# EAGLE library part MKL02Z32VFG4 (library PatternAgents-NXP)
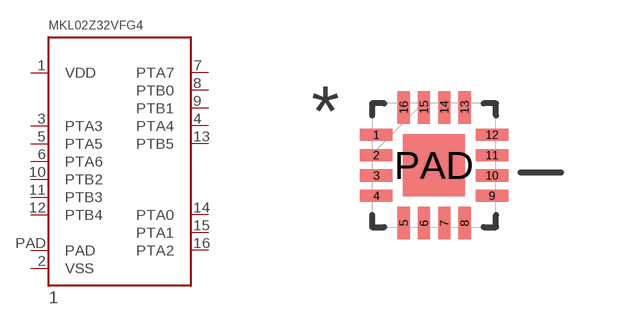
[diagram p12: symbol with the pads of QFN16_3X3; footprint QFN16_3X3]

Designator prefix 1

## MKL02Z32VFG4  [QFN16_3X3]
1  VDD
2  VSS
3  PTA3
4  PTA4
5  PTA5
6  PTA6
7  PTA7
8  PTB0
9  PTB1
10  PTB2
11  PTB3
12  PTB4
13  PTB5
14  PTA0
15  PTA1
16  PTA2
PAD  PAD

## Footprint QFN16_3X3 (pad centres in mm)
smd 0.813 x 0.305: 1 -1.448,0.762; 2 -1.448,0.254; 3 -1.448,-0.254; 4 -1.448,-0.762; 9 1.448,-0.762; 10 1.448,-0.254; 11 1.448,0.254; 12 1.448,0.762
smd 0.305 x 0.813: 5 -0.762,-1.448; 6 -0.254,-1.448; 7 0.254,-1.448; 8 0.762,-1.448; 13 0.762,1.448; 14 0.254,1.448; 15 -0.254,1.448; 16 -0.762,1.448
smd 1.549 x 1.549: PAD 0,0